# EAGLE library part ESP-WROOM-32 (library pandaLight)
ESP-WROOM-32 is a powerful, generic WiFi-BT-BLE MCU module that targets a wide variety of applications, ranging from low-power sensor networks to the most demanding tasks, such as voice encoding, music streaming and MP3 decoding.
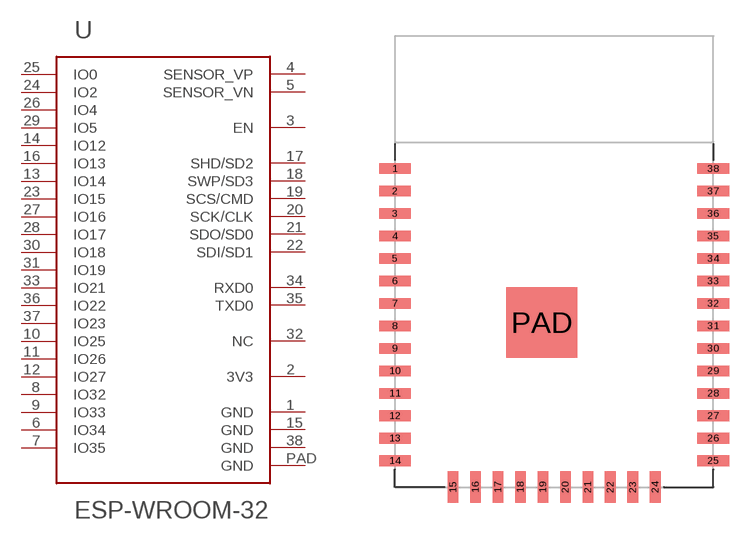
[diagram p21: symbol with the pads of ESP-WROOM-32; footprint ESP-WROOM-32]

Designator prefix -

## ESP-WROOM-32  [ESP-WROOM-32]
1  GND  pwr
2  3V3  pwr
3  EN  in
4  SENSOR_VP  in
5  SENSOR_VN  in
6  IO34
7  IO35
8  IO32
9  IO33
10  IO25
11  IO26
12  IO27
13  IO14
14  IO12
15  GND  pwr
16  IO13
17  SHD/SD2
18  SWP/SD3
19  SCS/CMD
20  SCK/CLK
21  SDO/SD0
22  SDI/SD1
23  IO15
24  IO2
25  IO0
26  IO4
27  IO16
28  IO17
29  IO5
30  IO18
31  IO19
32  NC  nc
33  IO21
34  RXD0
35  TXD0
36  IO22
37  IO23
38  GND  pwr
PAD  GND  pwr

## Footprint ESP-WROOM-32 (pad centres in mm)
smd 1.8 x 0.6: 1 -8.3,8.7; 2 -8.3,7.43; 3 -8.3,6.16; 4 -8.3,4.89; 5 -8.3,3.62; 6 -8.3,2.35; 7 -8.3,1.08; 8 -8.3,-0.19; 9 -8.3,-1.46; 10 -8.3,-2.73; 11 -8.3,-4; 12 -8.3,-5.27; 13 -8.3,-6.54; 14 -8.3,-7.81; 25 9.7,-7.81; 26 9.7,-6.54; 27 9.7,-5.27; 28 9.7,-4; 29 9.7,-2.73; 30 9.7,-1.46; 31 9.7,-0.19; 32 9.7,1.08; 33 9.7,2.35; 34 9.7,3.62; 35 9.7,4.89; 36 9.7,6.16; 37 9.7,7.43; 38 9.7,8.7
smd 0.6 x 1.8: 15 -5.015,-9.3; 16 -3.745,-9.3; 17 -2.475,-9.3; 18 -1.205,-9.3; 19 0.065,-9.3; 20 1.335,-9.3; 21 2.605,-9.3; 22 3.875,-9.3; 23 5.145,-9.3; 24 6.415,-9.3
smd 4 x 4: PAD 0,0